# EAGLE library part PROG-HEADER_2X10 (library angrypig7-Connectors-Programming)
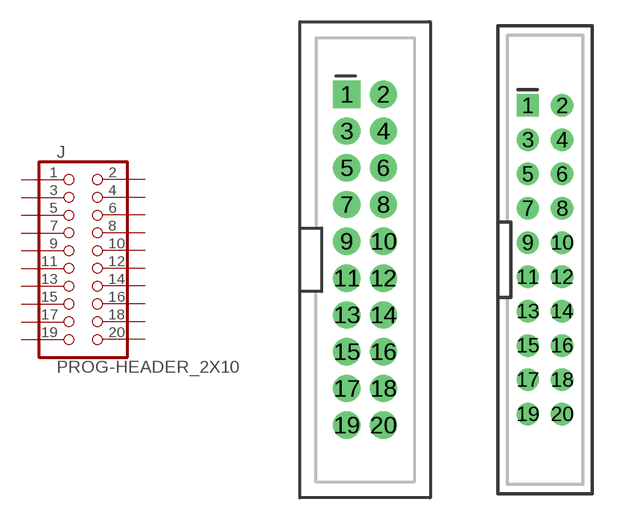
[diagram p8: symbol with the pads of 2X10-2.54MM-SHROUDED; footprints 2X10-2.54MM-SHROUDED, 2X10-2.00MM-SHROUDED]

Designator prefix J

## PROG-HEADER_2X10_SHROUDED  [2X10-2.54MM-SHROUDED]
1  1  pas
2  2  pwr
3  3  pas
4  4  pwr
5  5  pas
6  6  pwr
7  7  pas
8  8  pwr
9  9  pas
10  10  pwr
11  11  pas
12  12  pwr
13  13  pas
14  14  pwr
15  15  pas
16  16  pwr
17  17  pas
18  18  pwr
19  19  pas
20  20  pwr

## PROG-HEADER_2X10_2.00MM-SHROUDED  [2X10-2.00MM-SHROUDED]
Pads as for 2X10-2.54MM-SHROUDED

## PROG-HEADER_2X10_RIGHT-ANGLE  [2X10-2.54MM-RIGHT-ANGLE]
Pads as for 2X10-2.54MM-SHROUDED

## PROG-HEADER_2X10_2.54MM-END-LAUNCH  [2X10-2.54MM-END-LAUNCH]
Pads as for 2X10-2.54MM-SHROUDED

## Footprint 2X10-2.54MM-SHROUDED (pad centres in mm)
drill 1.016 pad 1.88 square: 1 -1.27,11.43
drill 1.016 pad 1.88: 2 1.27,11.43; 3 -1.27,8.89; 4 1.27,8.89; 5 -1.27,6.35; 6 1.27,6.35; 7 -1.27,3.81; 8 1.27,3.81; 9 -1.27,1.27; 10 1.27,1.27; 11 -1.27,-1.27; 12 1.27,-1.27; 13 -1.27,-3.81; 14 1.27,-3.81; 15 -1.27,-6.35; 16 1.27,-6.35; 17 -1.27,-8.89; 18 1.27,-8.89; 19 -1.27,-11.43; 20 1.27,-11.43

## Footprint 2X10-2.00MM-SHROUDED (pad centres in mm)
drill 0.8 square: 1 -1,9
drill 0.8: 2 1,9; 3 -1,7; 4 1,7; 5 -1,5; 6 1,5; 7 -1,3; 8 1,3; 9 -1,1; 10 1,1; 11 -1,-1; 12 1,-1; 13 -1,-3; 14 1,-3; 15 -1,-5; 16 1,-5; 17 -1,-7; 18 1,-7; 19 -1,-9; 20 1,-9

## Footprint 2X10-2.54MM-RIGHT-ANGLE (pad centres in mm)
drill 1.016 pad 1.88 square: 1 1.27,11.43
drill 1.016 pad 1.88: 2 -1.27,11.43; 3 1.27,8.89; 4 -1.27,8.89; 5 1.27,6.35; 6 -1.27,6.35; 7 1.27,3.81; 8 -1.27,3.81; 9 1.27,1.27; 10 -1.27,1.27; 11 1.27,-1.27; 12 -1.27,-1.27; 13 1.27,-3.81; 14 -1.27,-3.81; 15 1.27,-6.35; 16 -1.27,-6.35; 17 1.27,-8.89; 18 -1.27,-8.89; 19 1.27,-11.43; 20 -1.27,-11.43

## Footprint 2X10-2.54MM-END-LAUNCH (pad centres in mm)
smd 3 x 1.6: 1 0.5,11.43; 3 0.5,8.89; 5 0.5,6.35; 7 0.5,3.81; 9 0.5,1.27; 11 0.5,-1.27; 13 0.5,-3.81; 15 0.5,-6.35; 17 0.5,-8.89; 19 0.5,-11.43
smd 3 x 1.6 bottom: 2 0.5,11.43; 4 0.5,8.89; 6 0.5,6.35; 8 0.5,3.81; 10 0.5,1.27; 12 0.5,-1.27; 14 0.5,-3.81; 16 0.5,-6.35; 18 0.5,-8.89; 20 0.5,-11.43